# Altium footprint library GC0307.PcbLib: 1 footprints
Each footprint in its own frame and in the unit in brackets; x right, y up, seen from the top. Pads: shape width x height; smd on the part's side, far side on the other; paste and mask are expansions set on the pad; w line width, h text height; cw(c..) or ccw(c..) is an arc to the next point about the centre after c.
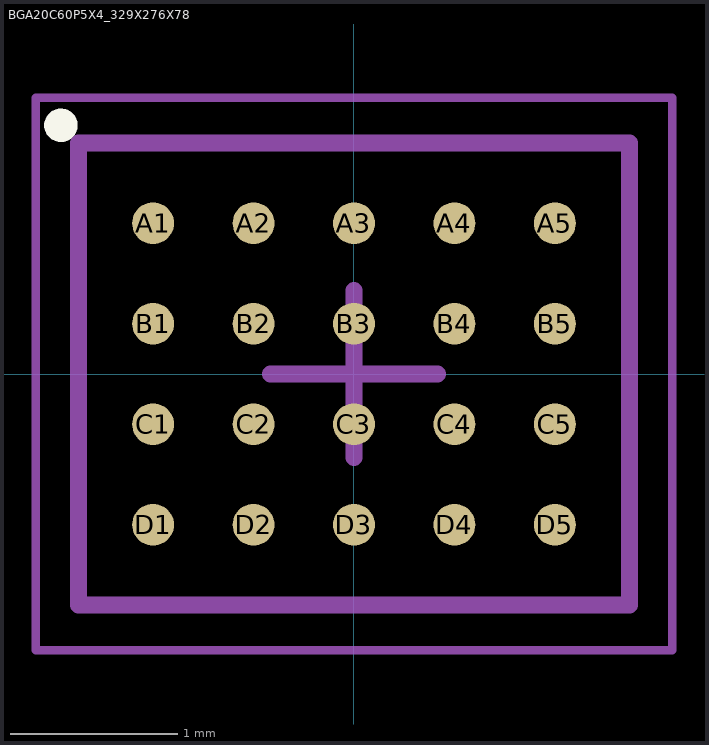
[diagram p0: the footprint, top view; thin cyan lines are the x and y axes]

## BGA20C60P5X4_329X276X78 [mm] "BGA, 20-Leads, Body 3,29x2,76mmx0,78mm, Pitch 0,60mm"
height 0.78
pads (20):
  round 0.25 smd: A1(-1.2,0.9) A2(-0.6,0.9) A3(0,0.9) A4(0.6,0.9) A5(1.2,0.9) B1(-1.2,0.3) B2(-0.6,0.3) B3(0,0.3) B4(0.6,0.3) B5(1.2,0.3) C1(-1.2,-0.3) C2(-0.6,-0.3) C3(0,-0.3) C4(0.6,-0.3) C5(1.2,-0.3) D1(-1.2,-0.9) D2(-0.6,-0.9) D3(0,-0.9) D4(0.6,-0.9) D5(1.2,-0.9)
Top Overlay:
  circle w0.1: c-1.75,1.485 r0.05
Mechanical 13:
  lines w0.1: -1.645,-1.38 1.645,-1.38 1.645,1.38 -1.645,1.38 -1.645,-1.38
Mechanical 15:
  lines w0.05: -1.9,-1.65 1.9,-1.65 1.9,1.65 -1.9,1.65 -1.9,-1.65
  lines w0.1: -0.5,0 0.5,0 ; 0,-0.5 0,0.5
3D body "BGA20C60P5X4_329X276X78.step": height 0.77, standoff 0, extent -1.645,-1.38 1.645,1.38